# Altium footprint library TEL-C.PcbLib: 1 footprints
Each footprint in its own frame and in the unit in brackets; x right, y up, seen from the top. Pads: shape width x height; smd on the part's side, far side on the other; paste and mask are expansions set on the pad; w line width, h text height; cw(c..) or ccw(c..) is an arc to the next point about the centre after c.
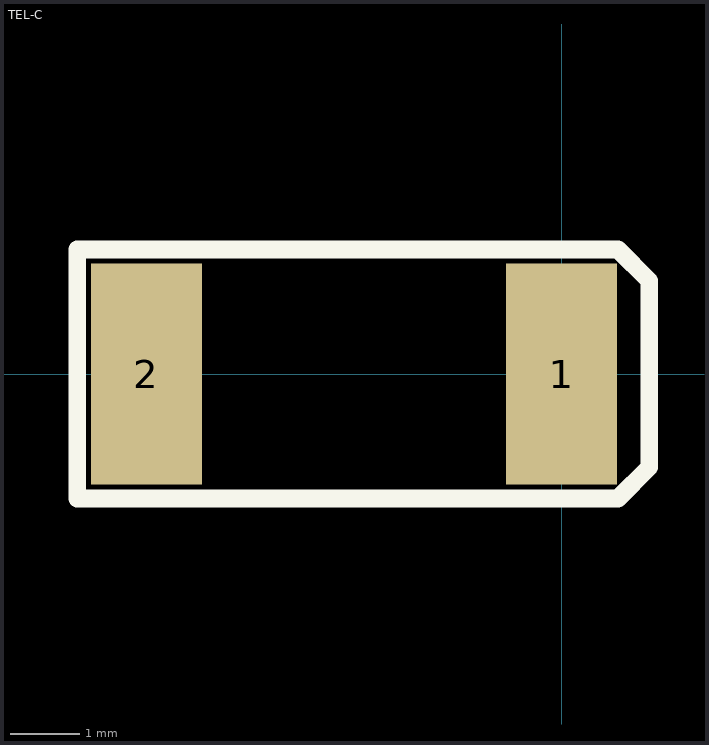
[diagram p0: the footprint, top view; thin cyan lines are the x and y axes]

## TEL-C [mm]
height 2.489
pads (2):
  rect 1.6x3.2 smd: 1(0,0) 2(-6,0)
TopOverlay:
  lines w0.254: -7,-1.8 -7,1.8 -0.855,1.8 0.57,1.8 0.816,1.8 1.27,1.346 1.27,-1.346 0.816,-1.8 0.57,-1.8 0.034,-1.8 -7,-1.8
Mechanical4:
  text ".110" at -5.3,0 h0.03
  text ".106" at 0,0 h0.03